# EAGLE library part XR22414-LQFP48 (library bc_custom)
IC HUB CONTROLLER USB 2.0 48LQFP
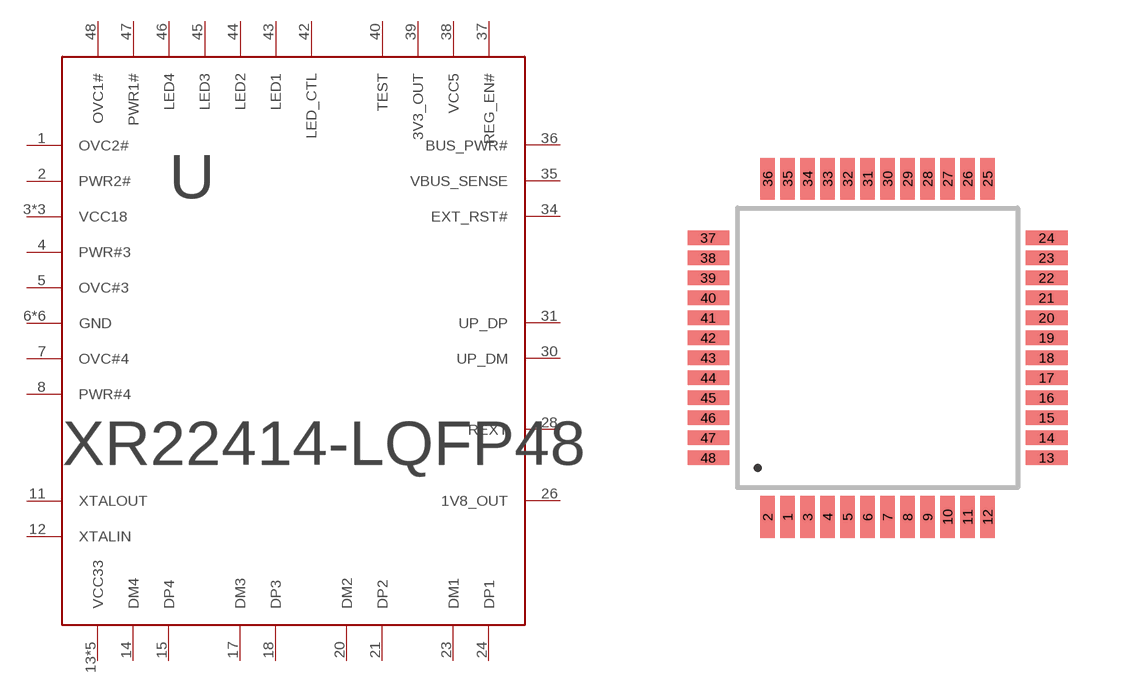
[diagram p5: symbol with the pads of XR22414-LQFP48; footprint XR22414-LQFP48]

Designator prefix U

## XR22414-LQFP48  [XR22414-LQFP48]
1  OVC2#
2  PWR2#
3  VCC18
4  PWR#3
5  OVC#3
6  GND
7  OVC#4
8  PWR#4
9  VCC18
10  GND
11  XTALOUT
12  XTALIN
13  VCC33
14  DM4
15  DP4
16  GND
17  DM3
18  DP3
19  VCC33
20  DM2
21  DP2
22  GND
23  DM1
24  DP1
25  GND
26  1V8_OUT
27  VCC33
28  REXT
29  VCC18
30  UP_DM
31  UP_DP
32  VCC33
33  GND
34  EXT_RST#
35  VBUS_SENSE
36  BUS_PWR#
37  REG_EN#
38  VCC5
39  3V3_OUT
40  TEST
41  VCC33
42  LED_CTL
43  LED1
44  LED2
45  LED3
46  LED4
47  PWR1#
48  OVC1#

## Footprint XR22414-LQFP48 (pad centres in mm)
smd 0.36 x 1.04: 1 -2.25,-4.23; 2 -2.75,-4.23; 3 -1.75,-4.23; 4 -1.25,-4.23; 5 -0.75,-4.23; 6 -0.25,-4.23; 7 0.25,-4.23; 8 0.75,-4.23; 9 1.25,-4.23; 10 1.75,-4.23; 11 2.25,-4.23; 12 2.75,-4.23; 25 2.75,4.23; 26 2.25,4.23; 27 1.75,4.23; 28 1.25,4.23; 29 0.75,4.23; 30 0.25,4.23; 31 -0.25,4.23; 32 -0.75,4.23; 33 -1.25,4.23; 34 -1.75,4.23; 35 -2.25,4.23; 36 -2.75,4.23
smd 1.04 x 0.36: 13 4.23,-2.75; 14 4.23,-2.25; 15 4.23,-1.75; 16 4.23,-1.25; 17 4.23,-0.75; 18 4.23,-0.25; 19 4.23,0.25; 20 4.23,0.75; 21 4.23,1.25; 22 4.23,1.75; 23 4.23,2.25; 24 4.23,2.75; 37 -4.23,2.75; 38 -4.23,2.25; 39 -4.23,1.75; 40 -4.23,1.25; 41 -4.23,0.75; 42 -4.23,0.25; 43 -4.23,-0.25; 44 -4.23,-0.75; 45 -4.23,-1.25; 46 -4.23,-1.75; 47 -4.23,-2.25; 48 -4.23,-2.75